# Altium footprint library RMCF2512JT1K00.PcbLib: 3 footprints
Each footprint in its own frame and in the unit in brackets; x right, y up, seen from the top. Pads: shape width x height; smd on the part's side, far side on the other; paste and mask are expansions set on the pad; w line width, h text height; cw(c..) or ccw(c..) is an arc to the next point about the centre after c.
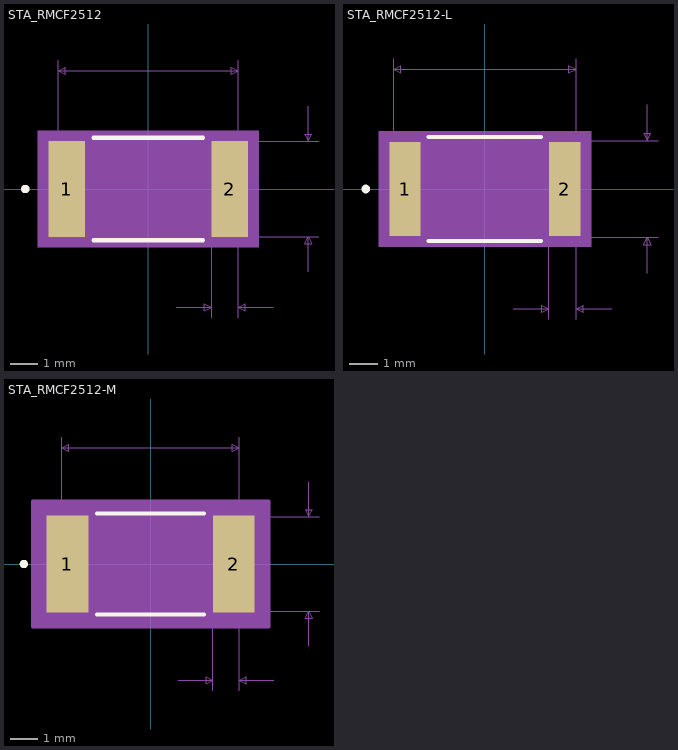
[diagram p0: the footprints below, top view; thin cyan lines are the x and y axes]

## STA_RMCF2512 [mil]
pads (2):
  rect 52x136 smd paste+0 mask+0: 1(-116,0) 2(116,0)
Top Overlay:
  circle w6: c-175,0 r3
  lines w6: -77.89,-73 77.89,-73 ; -77.89,73 77.89,73
Mechanical 5:
  region: 157,-83 -157,-83 -157,83 157,83
Mechanical 7:
  lines w1: -128,0 -128,183 ; 0,-68 243,-68 ; 0,68 243,68 ; 40,-168 90,-168 ; 90,-183 90,0 ; 128,-183 128,0 128,183 ; 178,-168 128,-168 ; 228,-118 228,-68 ; 228,118 228,68 ; -128,168 128,168 ; -128,168 -118,173 -118,163 -128,168 ; 90,-168 80,-163 80,-173 90,-168 ; 128,-168 138,-163 138,-173 128,-168 ; 128,168 118,173 118,163 128,168 ; 228,-68 223,-78 233,-78 228,-68 ; 228,68 223,78 233,78 228,68
  text "Default Padstyle: RX52Y136D0T" at -362.5,-338 h50
  text "Alt 1 Padstyle: OX60Y90D30P" at -337.5,-398 h50
  text "Alt 2 Padstyle: OX90Y60D30P" at -337.5,-458 h50
  text "0.136in/3.454mm" at 248,-12.5 h25
  text "0.256in/6.502mm" at -93.75,188 h25
  text "0.038in/0.965mm" at 15.25,-213 h25
Mechanical 13:
  circle w0: c-111,0 r3
  lines w1: -128,-68 -128,68 ; -128,-68 -90,-68 -90,68 -128,68 ; -128,-68 128,-68 ; -128,-68 -128,68 ; -128,68 128,68 ; 128,-68 90,-68 90,68 128,68 ; 128,-68 128,68 ; 128,-68 128,68
Mechanical 15:
  region: 152,-78 -152,-78 -152,78 152,78
  lines w6: -152,-78 -152,78 152,78 152,-78 -152,-78
3D body "STA_RMCF2512.step": height 27.99, standoff 0, extent -127.98,-67.99 128,68
3D body: height 10, standoff 0, extent 0,0 10,10

## STA_RMCF2512-L [mil]
pads (2):
  rect 44x132 smd paste+0 mask+0: 1(-112,0) 2(112,0)
Top Overlay:
  circle w6: c-167,0 r3
  lines w6: -78.93,-73 78.93,-73 ; -78.93,73 78.93,73
Mechanical 5:
  region: 149,-81 -149,-81 -149,81 149,81
Mechanical 7:
  lines w1: -128,0 -128,183 ; 0,-68 243,-68 ; 0,68 243,68 ; 40,-168 90,-168 ; 90,-183 90,0 ; 128,-183 128,0 128,183 ; 178,-168 128,-168 ; 228,-118 228,-68 ; 228,118 228,68 ; -128,168 -118,163 -118,173 -128,168 ; -128,168 128,168 ; 90,-168 80,-173 80,-163 90,-168 ; 128,-168 138,-173 138,-163 128,-168 ; 128,168 118,163 118,173 128,168 ; 228,-68 233,-78 223,-78 228,-68 ; 228,68 233,78 223,78 228,68
  text "0.038in/0.965mm" at 15.25,-213 h25
  text "0.256in/6.502mm" at -93.75,188 h25
  text "0.136in/3.454mm" at 248,-12.5 h25
  text "Alt 2 Padstyle: OX90Y60D30P" at -337.5,-456 h50
  text "Alt 1 Padstyle: OX60Y90D30P" at -337.5,-396 h50
  text "Default Padstyle: RX44Y132D0T" at -362.5,-336 h50
Mechanical 13:
  circle w0: c-107,0 r3
  lines w1: -128,-68 -128,68 ; -128,-68 128,-68 ; -128,-68 -90,-68 -90,68 -128,68 ; -128,-68 -128,68 ; -128,68 128,68 ; 128,-68 128,68 ; 128,-68 128,68 ; 128,-68 90,-68 90,68 128,68
Mechanical 15:
  region: 138,-70 -138,-70 -138,70 138,70
  lines w6: -138,-70 138,-70 138,70 -138,70 -138,-70
3D body: height 10, standoff 0, extent 0,0 10,10

## STA_RMCF2512-M [mil]
pads (2):
  rect 60x140 smd paste+0 mask+0: 1(-120,0) 2(120,0)
Top Overlay:
  circle w6: c-183,0 r3
  lines w6: -77.25,-73 77.25,-73 ; -77.25,73 77.25,73
Mechanical 5:
  region: 165,-85 -165,-85 -165,85 165,85
Mechanical 7:
  lines w1: -128,0 -128,183 ; 0,-68 243,-68 ; 0,68 243,68 ; 40,-168 90,-168 ; 90,-183 90,0 ; 128,-183 128,0 128,183 ; 178,-168 128,-168 ; 228,-118 228,-68 ; 228,118 228,68 ; -128,168 -118,163 -118,173 -128,168 ; -128,168 128,168 ; 90,-168 80,-173 80,-163 90,-168 ; 128,-168 138,-173 138,-163 128,-168 ; 128,168 118,163 118,173 128,168 ; 228,-68 233,-78 223,-78 228,-68 ; 228,68 233,78 223,78 228,68
  text "0.038in/0.965mm" at 15.25,-213 h25
  text "0.256in/6.502mm" at -93.75,188 h25
  text "0.136in/3.454mm" at 248,-12.5 h25
  text "Alt 2 Padstyle: OX90Y60D30P" at -337.5,-460 h50
  text "Alt 1 Padstyle: OX60Y90D30P" at -337.5,-400 h50
  text "Default Padstyle: RX60Y140D0T" at -362.5,-340 h50
Mechanical 13:
  circle w0: c-115,0 r3
  lines w1: -128,-68 -128,68 ; -128,-68 128,-68 ; -128,-68 -90,-68 -90,68 -128,68 ; -128,-68 -128,68 ; -128,68 128,68 ; 128,-68 128,68 ; 128,-68 128,68 ; 128,-68 90,-68 90,68 128,68
Mechanical 15:
  region: 170,-90 -170,-90 -170,90 170,90
  lines w6: -170,-90 170,-90 170,90 -170,90 -170,-90
3D body: height 10, standoff 0, extent 0,0 10,10